# Altium schematic symbol library 687 1xx 140 22.SchLib: 24 symbols
Pins are listed as number, name and electrical type; pins without a type are passive.

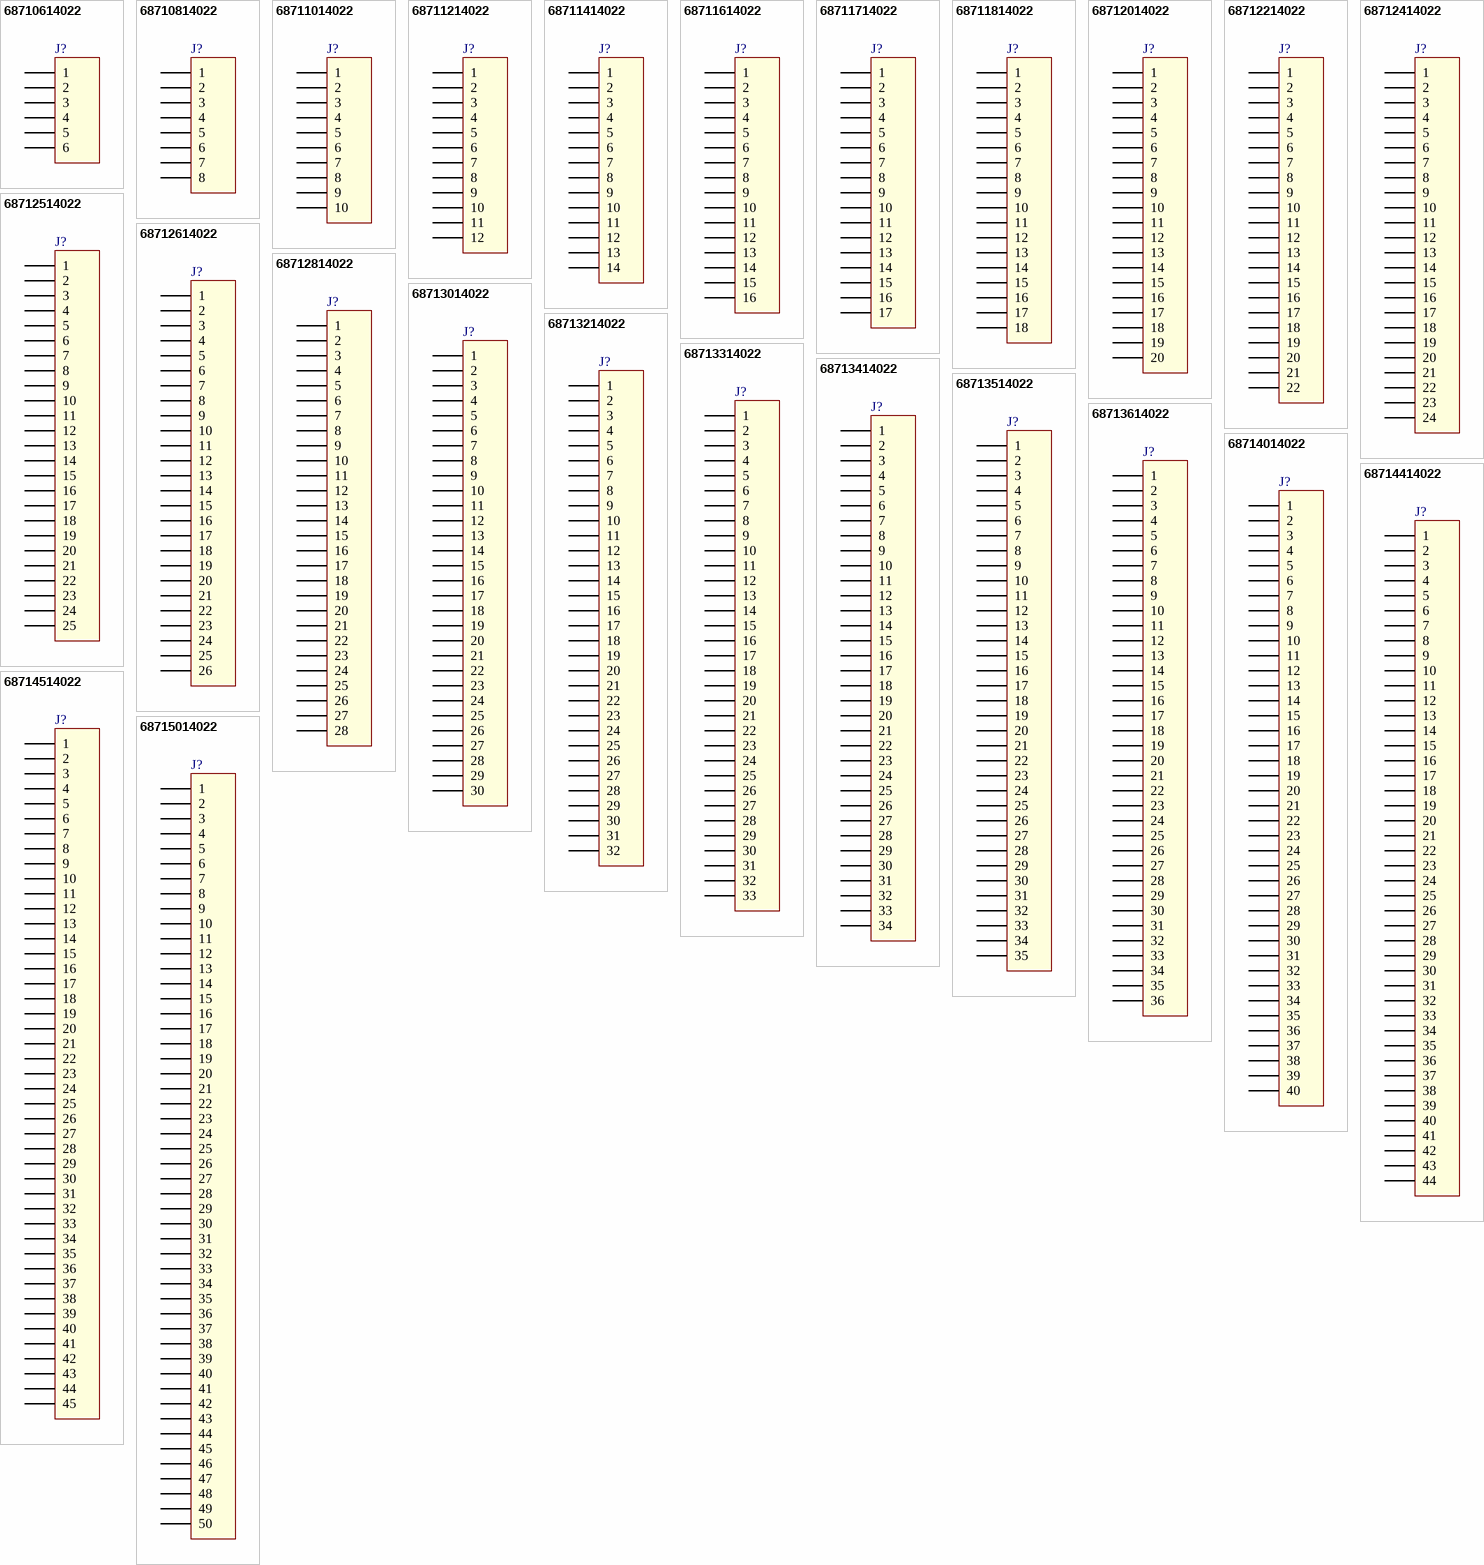
[diagram p0: symbols 68710614022 to 68715014022]

## 68710614022
designator J?
0.50 mm SMT ZIF Horizontal Top Contact WR-FPC, 6 pins; Part Number: 68710614022; Pitch: 0.5 mm; Pin Number: 6; ComponentLink1Description: Manufacturer; ComponentLink1URL: http://www.we-online.de; ComponentLink2Description: Datasheet; ComponentLink2URL: http://katalog.we-online.com/em/datasheet/6871xx14022.pdf; Published Date: April 2017; Publisher: Wurth Elektronik
footprint 68710614022 (0.50 mm SMT ZIF Horizontal Top Contact, 6p)
pins: 1, 2, 3, 4, 5, 6

## 68710814022
designator J?
0.50 mm SMT ZIF Horizontal Top Contact WR-FPC, 8 pins; Part Number: 68710814022; Pitch: 0.5 mm; Pin Number: 8; ComponentLink1Description: Manufacturer; ComponentLink1URL: http://www.we-online.de; ComponentLink2Description: Datasheet; ComponentLink2URL: http://katalog.we-online.com/em/datasheet/6871xx14022.pdf; Published Date: April 2017; Publisher: Wurth Elektronik
footprint 68710814022 (0.50 mm SMT ZIF Horizontal Top Contact, 8p)
pins: 1, 2, 3, 4, 5, 6, 7, 8

## 68711014022
designator J?
0.50 mm SMT ZIF Horizontal Top Contact WR-FPC, 10 pins; Part Number: 68711014022; Pitch: 0.5 mm; Pin Number: 10; ComponentLink1Description: Manufacturer; ComponentLink1URL: http://www.we-online.de; ComponentLink2Description: Datasheet; ComponentLink2URL: http://katalog.we-online.com/em/datasheet/6871xx14022.pdf; Published Date: April 2017; Publisher: Wurth Elektronik
footprint 68711014022 (0.50 mm SMT ZIF Horizontal Top Contact, 10p)
pins: 1, 2, 3, 4, 5, 6, 7, 8, 9, 10

## 68711214022
designator J?
0.50 mm SMT ZIF Horizontal Top Contact WR-FPC, 12 pins; Part Number: 68711214022; Pitch: 0.5 mm; Pin Number: 12; ComponentLink1Description: Manufacturer; ComponentLink1URL: http://www.we-online.de; ComponentLink2Description: Datasheet; ComponentLink2URL: http://katalog.we-online.com/em/datasheet/6871xx14022.pdf; Published Date: April 2017; Publisher: Wurth Elektronik
footprint 68711214022 (0.50 mm SMT ZIF Horizontal Top Contact, 12p)
pins: 1, 2, 3, 4, 5, 6, 7, 8, 9, 10, 11, 12

## 68711414022
designator J?
0.50 mm SMT ZIF Horizontal Top Contact WR-FPC, 14 pins; Part Number: 68711414022; Pitch: 0.5 mm; Pin Number: 14; ComponentLink1Description: Manufacturer; ComponentLink1URL: http://www.we-online.de; ComponentLink2Description: Datasheet; ComponentLink2URL: http://katalog.we-online.com/em/datasheet/6871xx14022.pdf; Published Date: April 2017; Publisher: Wurth Elektronik
footprint 68711414022 (0.50 mm SMT ZIF Horizontal Top Contact, 14p)
pins: 1, 2, 3, 4, 5, 6, 7, 8, 9, 10, 11, 12, 13, 14

## 68711614022
designator J?
0.50 mm SMT ZIF Horizontal Top Contact WR-FPC, 16 pins; Part Number: 68711614022; Pitch: 0.5 mm; Pin Number: 16; ComponentLink1Description: Manufacturer; ComponentLink1URL: http://www.we-online.de; ComponentLink2Description: Datasheet; ComponentLink2URL: http://katalog.we-online.com/em/datasheet/6871xx14022.pdf; Published Date: April 2017; Publisher: Wurth Elektronik
footprint 68711614022 (0.50 mm SMT ZIF Horizontal Top Contact, 16p)
pins: 1, 2, 3, 4, 5, 6, 7, 8, 9, 10, 11, 12, 13, 14, 15, 16

## 68711714022
designator J?
0.50 mm SMT ZIF Horizontal Top Contact WR-FPC, 17 pins; Part Number: 68711714022; Pitch: 0.5 mm; Pin Number: 17; ComponentLink1Description: Manufacturer; ComponentLink1URL: http://www.we-online.de; ComponentLink2Description: Datasheet; ComponentLink2URL: http://katalog.we-online.com/em/datasheet/6871xx14022.pdf; Published Date: April 2017; Publisher: Wurth Elektronik
footprint 68711714022 (0.50 mm SMT ZIF Horizontal Top Contact, 17p)
pins: 1, 2, 3, 4, 5, 6, 7, 8, 9, 10, 11, 12, 13, 14, 15, 16, 17

## 68711814022
designator J?
0.50 mm SMT ZIF Horizontal Top Contact WR-FPC, 18 pins; Part Number: 68711814022; Pitch: 0.5 mm; Pin Number: 18; ComponentLink1Description: Manufacturer; ComponentLink1URL: http://www.we-online.de; ComponentLink2Description: Datasheet; ComponentLink2URL: http://katalog.we-online.com/em/datasheet/6871xx14022.pdf; Published Date: April 2017; Publisher: Wurth Elektronik
footprint 68711814022 (0.50 mm SMT ZIF Horizontal Top Contact, 18p)
pins: 1, 2, 3, 4, 5, 6, 7, 8, 9, 10, 11, 12, 13, 14, 15, 16, 17, 18

## 68712014022
designator J?
0.50 mm SMT ZIF Horizontal Top Contact WR-FPC, 20 pins; Part Number: 68712014022; Pitch: 0.5 mm; Pin Number: 20; ComponentLink1Description: Manufacturer; ComponentLink1URL: http://www.we-online.de; ComponentLink2Description: Datasheet; ComponentLink2URL: http://katalog.we-online.com/em/datasheet/6871xx14022.pdf; Published Date: April 2017; Publisher: Wurth Elektronik
footprint 68712014022 (0.50 mm SMT ZIF Horizontal Top Contact, 20p)
pins: 1, 2, 3, 4, 5, 6, 7, 8, 9, 10, 11, 12, 13, 14, 15, 16, 17, 18, 19, 20

## 68712214022
designator J?
0.50 mm SMT ZIF Horizontal Top Contact WR-FPC, 22 pins; Part Number: 68712214022; Pitch: 0.5 mm; Pin Number: 22; ComponentLink1Description: Manufacturer; ComponentLink1URL: http://www.we-online.de; ComponentLink2Description: Datasheet; ComponentLink2URL: http://katalog.we-online.com/em/datasheet/6871xx14022.pdf; Published Date: April 2017; Publisher: Wurth Elektronik
footprint 68712214022 (0.50 mm SMT ZIF Horizontal Top Contact, 22p)
pins: 1, 2, 3, 4, 5, 6, 7, 8, 9, 10, 11, 12, 13, 14, 15, 16, 17, 18, 19, 20, 21, 22

## 68712414022
designator J?
0.50 mm SMT ZIF Horizontal Top Contact WR-FPC, 24 pins; Part Number: 68712414022; Pitch: 0.5 mm; Pin Number: 24; ComponentLink1Description: Manufacturer; ComponentLink1URL: http://www.we-online.de; ComponentLink2Description: Datasheet; ComponentLink2URL: http://katalog.we-online.com/em/datasheet/6871xx14022.pdf; Published Date: April 2017; Publisher: Wurth Elektronik
footprint 68712414022 (0.50 mm SMT ZIF Horizontal Top Contact, 24p)
pins: 1, 2, 3, 4, 5, 6, 7, 8, 9, 10, 11, 12, 13, 14, 15, 16, 17, 18, 19, 20, 21, 22, 23, 24

## 68712514022
designator J?
0.50 mm SMT ZIF Horizontal Top Contact WR-FPC, 25 pins; Part Number: 68712514022; Pitch: 0.5 mm; Pin Number: 25; ComponentLink1Description: Manufacturer; ComponentLink1URL: http://www.we-online.de; ComponentLink2Description: Datasheet; ComponentLink2URL: http://katalog.we-online.com/em/datasheet/6871xx14022.pdf; Published Date: April 2017; Publisher: Wurth Elektronik
footprint 68712514022 (0.50 mm SMT ZIF Horizontal Top Contact, 25p)
pins: 1, 2, 3, 4, 5, 6, 7, 8, 9, 10, 11, 12, 13, 14, 15, 16, 17, 18, 19, 20, 21, 22, 23, 24, 25

## 68712614022
designator J?
0.50 mm SMT ZIF Horizontal Top Contact WR-FPC, 26 pins; Part Number: 68712614022; Pitch: 0.5 mm; Pin Number: 26; ComponentLink1Description: Manufacturer; ComponentLink1URL: http://www.we-online.de; ComponentLink2Description: Datasheet; ComponentLink2URL: http://katalog.we-online.com/em/datasheet/6871xx14022.pdf; Published Date: April 2017; Publisher: Wurth Elektronik
footprint 68712614022 (0.50 mm SMT ZIF Horizontal Top Contact, 26p)
pins: 1, 2, 3, 4, 5, 6, 7, 8, 9, 10, 11, 12, 13, 14, 15, 16, 17, 18, 19, 20, 21, 22, 23, 24, 25, 26

## 68712814022
designator J?
0.50 mm SMT ZIF Horizontal Top Contact WR-FPC, 28 pins; Part Number: 68712814022; Pitch: 0.5 mm; Pin Number: 28; ComponentLink1Description: Manufacturer; ComponentLink1URL: http://www.we-online.de; ComponentLink2Description: Datasheet; ComponentLink2URL: http://katalog.we-online.com/em/datasheet/6871xx14022.pdf; Published Date: April 2017; Publisher: Wurth Elektronik
footprint 68712814022 (0.50 mm SMT ZIF Horizontal Top Contact, 28p)
pins: 1, 2, 3, 4, 5, 6, 7, 8, 9, 10, 11, 12, 13, 14, 15, 16, 17, 18, 19, 20, 21, 22, 23, 24, 25, 26, 27, 28

## 68713014022
designator J?
0.50 mm SMT ZIF Horizontal Top Contact WR-FPC, 30 pins; Part Number: 68713014022; Pitch: 0.5 mm; Pin Number: 30; ComponentLink1Description: Manufacturer; ComponentLink1URL: http://www.we-online.de; ComponentLink2Description: Datasheet; ComponentLink2URL: http://katalog.we-online.com/em/datasheet/6871xx14022.pdf; Published Date: April 2017; Publisher: Wurth Elektronik
footprint 68713014022 (0.50 mm SMT ZIF Horizontal Top Contact, 30p)
pins: 1, 2, 3, 4, 5, 6, 7, 8, 9, 10, 11, 12, 13, 14, 15, 16, 17, 18, 19, 20, 21, 22, 23, 24, 25, 26, 27, 28, 29, 30

## 68713214022
designator J?
0.50 mm SMT ZIF Horizontal Top Contact WR-FPC, 32 pins; Part Number: 68713214022; Pitch: 0.5 mm; Pin Number: 32; ComponentLink1Description: Manufacturer; ComponentLink1URL: http://www.we-online.de; ComponentLink2Description: Datasheet; ComponentLink2URL: http://katalog.we-online.com/em/datasheet/6871xx14022.pdf; Published Date: April 2017; Publisher: Wurth Elektronik
footprint 68713214022 (0.50 mm SMT ZIF Horizontal Top Contact, 32p)
pins: 1, 2, 3, 4, 5, 6, 7, 8, 9, 10, 11, 12, 13, 14, 15, 16, 17, 18, 19, 20, 21, 22, 23, 24, 25, 26, 27, 28, 29, 30, 31, 32

## 68713314022
designator J?
0.50 mm SMT ZIF Horizontal Top Contact WR-FPC, 33 pins; Part Number: 68713314022; Pitch: 0.5 mm; Pin Number: 33; ComponentLink1Description: Manufacturer; ComponentLink1URL: http://www.we-online.de; ComponentLink2Description: Datasheet; ComponentLink2URL: http://katalog.we-online.com/em/datasheet/6871xx14022.pdf; Published Date: April 2017; Publisher: Wurth Elektronik
footprint 68713314022 (0.50 mm SMT ZIF Horizontal Top Contact, 33p)
pins: 1, 2, 3, 4, 5, 6, 7, 8, 9, 10, 11, 12, 13, 14, 15, 16, 17, 18, 19, 20, 21, 22, 23, 24, 25, 26, 27, 28, 29, 30, 31, 32, 33

## 68713414022
designator J?
0.50 mm SMT ZIF Horizontal Top Contact WR-FPC, 34 pins; Part Number: 68713414022; Pitch: 0.5 mm; Pin Number: 34; ComponentLink1Description: Manufacturer; ComponentLink1URL: http://www.we-online.de; ComponentLink2Description: Datasheet; ComponentLink2URL: http://katalog.we-online.com/em/datasheet/6871xx14022.pdf; Published Date: April 2017; Publisher: Wurth Elektronik
footprint 68713414022 (0.50 mm SMT ZIF Horizontal Top Contact, 34p)
pins: 1, 2, 3, 4, 5, 6, 7, 8, 9, 10, 11, 12, 13, 14, 15, 16, 17, 18, 19, 20, 21, 22, 23, 24, 25, 26, 27, 28, 29, 30, 31, 32, 33, 34

## 68713514022
designator J?
0.50 mm SMT ZIF Horizontal Top Contact WR-FPC, 35 pins; Part Number: 68713514022; Pitch: 0.5 mm; Pin Number: 35; ComponentLink1Description: Manufacturer; ComponentLink1URL: http://www.we-online.de; ComponentLink2Description: Datasheet; ComponentLink2URL: http://katalog.we-online.com/em/datasheet/6871xx14022.pdf; Published Date: April 2017; Publisher: Wurth Elektronik
footprint 68713514022 (0.50 mm SMT ZIF Horizontal Top Contact, 35p)
pins: 1, 2, 3, 4, 5, 6, 7, 8, 9, 10, 11, 12, 13, 14, 15, 16, 17, 18, 19, 20, 21, 22, 23, 24, 25, 26, 27, 28, 29, 30, 31, 32, 33, 34, 35

## 68713614022
designator J?
0.50 mm SMT ZIF Horizontal Top Contact WR-FPC, 36 pins; Part Number: 68713614022; Pitch: 0.5 mm; Pin Number: 36; ComponentLink1Description: Manufacturer; ComponentLink1URL: http://www.we-online.de; ComponentLink2Description: Datasheet; ComponentLink2URL: http://katalog.we-online.com/em/datasheet/6871xx14022.pdf; Published Date: April 2017; Publisher: Wurth Elektronik
footprint 68713614022 (0.50 mm SMT ZIF Horizontal Top Contact, 36p)
pins: 1, 2, 3, 4, 5, 6, 7, 8, 9, 10, 11, 12, 13, 14, 15, 16, 17, 18, 19, 20, 21, 22, 23, 24, 25, 26, 27, 28, 29, 30, 31, 32, 33, 34, 35, 36

## 68714014022
designator J?
0.50 mm SMT ZIF Horizontal Top Contact WR-FPC, 40 pins; Part Number: 68714014022; Pitch: 0.5 mm; Pin Number: 40; ComponentLink1Description: Manufacturer; ComponentLink1URL: http://www.we-online.de; ComponentLink2Description: Datasheet; ComponentLink2URL: http://katalog.we-online.com/em/datasheet/6871xx14022.pdf; Published Date: April 2017; Publisher: Wurth Elektronik
footprint 68714014022 (0.50 mm SMT ZIF Horizontal Top Contact, 40p)
pins: 1, 2, 3, 4, 5, 6, 7, 8, 9, 10, 11, 12, 13, 14, 15, 16, 17, 18, 19, 20, 21, 22, 23, 24, 25, 26, 27, 28, 29, 30, 31, 32, 33, 34, 35, 36, 37, 38, 39, 40

## 68714414022
designator J?
0.50 mm SMT ZIF Horizontal Top Contact WR-FPC, 44 pins; Part Number: 68714414022; Pitch: 0.5 mm; Pin Number: 44; ComponentLink1Description: Manufacturer; ComponentLink1URL: http://www.we-online.de; ComponentLink2Description: Datasheet; ComponentLink2URL: http://katalog.we-online.com/em/datasheet/6871xx14022.pdf; Published Date: April 2017; Publisher: Wurth Elektronik
footprint 68714414022 (0.50 mm SMT ZIF Horizontal Top Contact, 44p)
pins: 1, 2, 3, 4, 5, 6, 7, 8, 9, 10, 11, 12, 13, 14, 15, 16, 17, 18, 19, 20, 21, 22, 23, 24, 25, 26, 27, 28, 29, 30, 31, 32, 33, 34, 35, 36, 37, 38, 39, 40, 41, 42, 43, 44

## 68714514022
designator J?
0.50 mm SMT ZIF Horizontal Top Contact WR-FPC, 45 pins; Part Number: 68714514022; Pitch: 0.5 mm; Pin Number: 45; ComponentLink1Description: Manufacturer; ComponentLink1URL: http://www.we-online.de; ComponentLink2Description: Datasheet; ComponentLink2URL: http://katalog.we-online.com/em/datasheet/6871xx14022.pdf; Published Date: April 2017; Publisher: Wurth Elektronik
footprint 68714514022 (0.50 mm SMT ZIF Horizontal Top Contact, 45p)
pins: 1, 2, 3, 4, 5, 6, 7, 8, 9, 10, 11, 12, 13, 14, 15, 16, 17, 18, 19, 20, 21, 22, 23, 24, 25, 26, 27, 28, 29, 30, 31, 32, 33, 34, 35, 36, 37, 38, 39, 40, 41, 42, 43, 44, 45

## 68715014022
designator J?
0.50 mm SMT ZIF Horizontal Top Contact WR-FPC, 50 pins; Part Number: 68715014022; Pitch: 0.5 mm; Pin Number: 50; ComponentLink1Description: Manufacturer; ComponentLink1URL: http://www.we-online.de; ComponentLink2Description: Datasheet; ComponentLink2URL: http://katalog.we-online.com/em/datasheet/6871xx14022.pdf; Published Date: April 2017; Publisher: Wurth Elektronik
footprint 68715014022 (0.50 mm SMT ZIF Horizontal Top Contact, 50p)
pins: 1, 2, 3, 4, 5, 6, 7, 8, 9, 10, 11, 12, 13, 14, 15, 16, 17, 18, 19, 20, 21, 22, 23, 24, 25, 26, 27, 28, 29, 30, 31, 32, 33, 34, 35, 36, 37, 38, 39, 40, 41, 42, 43, 44, 45, 46, 47, 48, 49, 50